# Altium schematic symbol library Bauteile.SchLib: 36 symbols
Pins are listed as number, name and electrical type; pins without a type are passive.

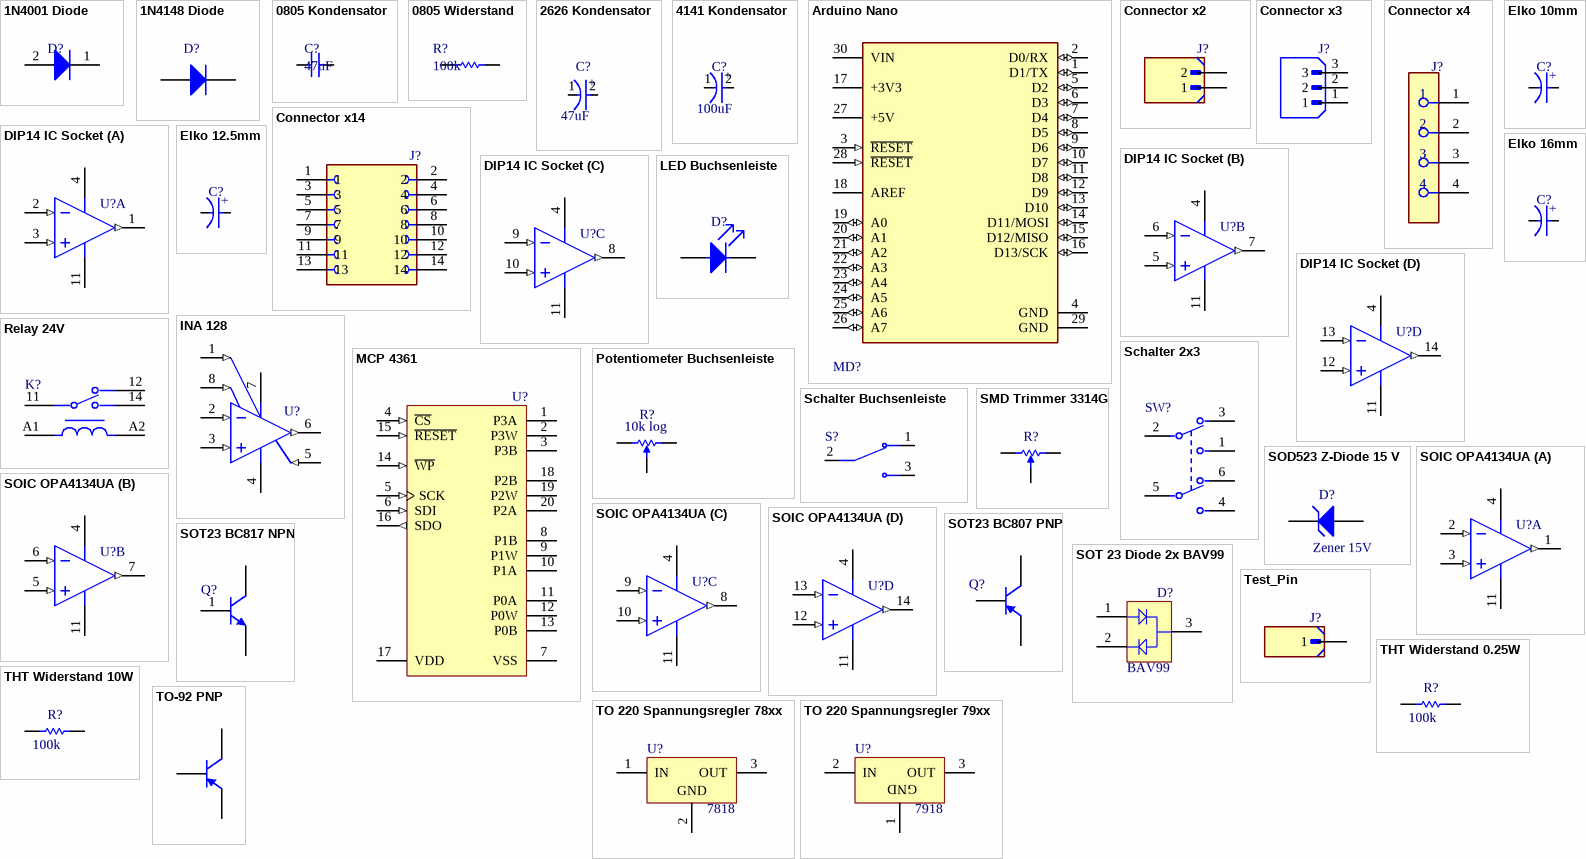
[diagram p0: symbols 1N4001 Diode to TO-92 PNP]

## 1N4001 Diode
designator D?
Standard Recovery Rectifier, 2-Pin Axial_Lead, Pb-Free, Bulk Bag; PartNumber: 1N4001; Manufacturer: On Semiconductor; VRRM Max (V): 50; IFSM Max (A): 30; IO(rec) Max (A): 1; ComponentLink3URL: http://www.onsemi.cn/pub_link/Collateral/59-10.PDF; ComponentLink3Description: Package Specification; PackageVersion: Rev. U, 02/2005; Packing: Bulk Bag; ComponentLink2Description: Datasheet; RoHS: TRUE; DatasheetVersion: Rev. 13; PackageReference: AXIAL_LEAD-2-59-10; ComponentLink1URL: http://www.onsemi.com/; Mounting Technology: Through Hole; PackageDescription: 2-Pin, Axial Lead, Diameter 2.35 mm; ComponentLink2URL: http://www.onsemi.com/pub_link/Collateral/1N4001-D.PDF; Type: Standard Recovery; ComponentLink1Description: Manufacturer URL
footprint 1N4001 Diode (AXIAL, 2-Leads, Diameter 2.35mm)
pins: 1 K, 2 A

## 1N4148 Diode
designator D?, comment 1N4148WS-7-F  (value not drawn)
Fast Switching Diode, 75 V, 0.3 A, -65 to 150 degC, 2-Pin SOD323, RoHS, Tape and Reel; DatasheetVersion: Rev. 25-2, 03/2016; PackageDescription: 2-Pin Small Outline Diode, Body 1.7 x 1.3 mm; ComponentLink2Description: Datasheet; ComponentLink1URL: http://www.diodes.com/; PackageReference: SOD323-2; ComponentLink2URL: http://www.diodes.com/datasheets/ds30097.pdf; ComponentLink1Description: Manufacturer URL
footprint 1N4148 Diode
pins: 1 A, 2 K

## 0805 Kondensator
designator C?, comment 47uF
0805 Kondensator; Value: 47uF
footprint 0805
pins: 1, 2

## 0805 Widerstand
designator R?, comment 100k
0805 Widerstand; Value: 100k
footprint 0805
pins: 1, 2

## 2626 Kondensator
designator C?, comment 47uF
2626 Kondensator d=6.6mm; Ripple Current: 2.8A; Voltage: 25V; Polarity: Polar; Leakage Current: 235uA; Tolerance: 20%; Dissipation Factor: 12%; ESR (Equivalent Series Resistance): 30mR; Life (Hours): 5000Hour; Diameter: 6.3mm; Package Quantity: 1000; Packaging: Tape and Reel; Height - Seated (Max): 0.236inch; Case/Package: Radial; Termination: SMD/SMT; Series: OS-CON™, SVPF; Number of Pins: 6; Value: 47uF; Min Operating Temperature: -55°C; Mount: Surface Mount; RoHS Compliant: Yes; Voltage Rating (DC): 25V; Length: 5.9mm; REACH SVHC: No SVHC; Voltage Rating: 25V; Ripple Current (AC): 2.8A; Height: 5.9mm; Max Operating Temperature: 105°C
footprint 2626 Kondensator (2626 Kondensator d=6.6mm)
pins: 1 C, 2 A
text: +

## 4141 Kondensator
designator C?, comment 100uF
4141Kondensator; Value: 100uF
footprint 4141 Kondensator
pins: 1 C, 2 A
text: +

## Arduino Nano
designator MD?, comment A000005  (value not drawn)
ARDUINO NANO ATMEGA328 EVAL BRD; Number of Bits: 8; Evaluation Kit: Yes; Operating Supply Voltage: 12V; Interface: I2C; Data Bus Width: 8b; Core Architecture: AVR; Packaging: Bulk; Length: 7inch; Package Quantity: 50; Width: 5inch; REACH SVHC: No SVHC; Weight: 0.358383oz; Series: AVR® ATmega; Height: 0.25inch
footprint Arduino Nano
pins: 1 D1/TX (io), 2 D0/RX (io), 3 ~{RESET} (in), 4 GND (power), 5 D2 (io), 6 D3 (io), 7 D4 (io), 8 D5 (io), 9 D6 (io), 10 D7 (io), 11 D8 (io), 12 D9 (io), 13 D10 (io), 14 D11/MOSI (io), 15 D12/MISO (io), 16 D13/SCK (io), 17 +3V3 (power), 18 AREF, 19 A0 (io), 20 A1 (io), 21 A2 (io), 22 A3 (io), 23 A4 (io), 24 A5 (io), 25 A6 (io), 26 A7 (io), 27 +5V (power), 28 ~{RESET} (in), 29 GND (power), 30 VIN (power)

## Connector x2
designator J?  (value not drawn)
Connector Header Through Hole 2 position 0.100 (2.54mm); MF: Wurth Elektronik; MP: 61300211121; SnapEDA_Link: https://www.snapeda.com/parts/61300211121/Wurth+Elektronik/view-part/?ref=snap; Package: None; Value: *; Check_prices: https://www.snapeda.com/parts/61300211121/Wurth+Elektronik/view-part/?ref=eda
footprint Connector x2
pins: 1, 2

## Connector x3
designator J?  (value not drawn)
Connector Header Through Hole 3 position 0.100 (2.54mm); MF: JST Sales; MP: B3B-XH-A; SnapEDA_Link: https://www.snapeda.com/parts/B3B-XH-A/JST+Sales+America+Inc./view-part/?ref=snap; Package: None; Value: *; Check_prices: https://www.snapeda.com/parts/B3B-XH-A/JST+Sales+America+Inc./view-part/?ref=eda
footprint Connector x3
pins: 1, 2, 3

## Connector x4
designator J?, comment SS-104-G-2  (value not drawn)
CONN RCPT 4POS 0.1 GOLD PCB; Contact Resistance: 10mR; Number of Positions: 4; Pitch: 2.54mm; Gender: Female; Connector Type: Receptacle; Max Current Rating: 1A; Color: Black; Contact Material: Copper; Min Operating Temperature: -55°C; Max Operating Temperature: 125°C; Radiation Hardening: No; Termination: Solder; Depth: 2.54mm; Contact Plating: Gold; Orientation: Straight; Housing Color: Black; Width: 2.54mm; RoHS Compliant: Yes; Lead Free: Lead Free; Mount: Through Hole; Series: SS; Length: 10.16mm; Packaging: Bulk; Package Quantity: 1; Housing Material: Polyester; Number of Contacts: 4; Number of Rows: 1
footprint Connector x4
pins: 1, 2, 3, 4

## Connector x14
designator J?  (value not drawn)
14 Position Header Connector Through Hole; MF: Sullins Connector; MP: SFH11-PBPC-D07-ST-BK; Value: *; Check_prices: https://www.snapeda.com/parts/SFH11-PBPC-D07-ST-BK/Sullins%20Connector%20Solutions/view-part/851415/?ref=eda; Availability: Warning; Package: None; SnapEDA_Link: https://www.snapeda.com/parts/SFH11-PBPC-D07-ST-BK/Sullins%20Connector%20Solutions/view-part/851415/?ref=snap; Purchase-URL: https://pricing.snapeda.com/search/part/SFH11-PBPC-D07-ST-BK/?ref=eda; Price: None
footprint Connector x14
pins: 1, 2, 3, 4, 5, 6, 7, 8, 9, 10, 11, 12, 13, 14

## DIP14 IC Socket
designator U?  (value not drawn)
Manufacturer: Texas Instruments; PartNumber: OPA4134UA; Vmax(V): 36; Number of Channels: 4; Iq per channel(Max)(mA): 5; SubFamily: Audio Operational Amplifier; GBW(Typ)(MHz): 8; Eco-Plan: Green (RoHS & no Sb/Br); DatasheetVersion: SBOS058; ComponentLink2URL: http://www.ti.com/general/docs/lit/getliterature.tsp?genericPartNumber=OPA4134&fileType=pdf; ComponentLink1URL: http://www.ti.com/; PackageDescription: 14-Pin Plastic Small Outline, Body 8.65 x 3.9 mm, Pitch 1.27 mm; Vmin(V): 5; ComponentLink2Description: Datasheet; PackageVersion: 4040047-5/M, 06/2011; Code_JEDEC: MS-012; PackageReference: D0014A; ComponentLink1Description: Manufacturer URL; Vn at Flatband(Typ)(nV/rtHz): 8; Mounting Technology: Surface Mount; ComponentLink3URL: http://www.ti.com/lit/ml/mpds177g/mpds177g.pdf; ComponentLink3Description: Package Specification
footprint DIP14 IC Socket (Socket, 14-Leads, Body 17.653x10.0076mm, Pitch 2.54mm)
pins on every part: 4 V+ (power), 11 V- (power)
part A pins: 1 OUT A (out), 2 IN A- (in), 3 IN A+ (in)
part B pins: 5 IN B+ (in), 6 IN B- (in), 7 OUT B (out)
part C pins: 8 OUT C (out), 9 IN C- (in), 10 IN C+ (in)
part D pins: 12 IN D+ (in), 13 IN D- (in), 14 OUT D (out)

## Elko 10mm
designator C?, comment 470uF  (value not drawn)
Aluminum Electrolytic Capacitors (Radial Lead Type) 470uF ±20% 25V; ESR (Equivalent Series Resistance): 43mR; Ripple Current: 1.29A; Life (Hours): 6000Hour; Lead Diameter: 0.6mm; Polarity: Polar; Min Operating Temperature: -40°C; Tolerance: 20%; Length: 12.5mm; Height - Seated (Max): 0.551inch; Max Operating Temperature: 105°C; Case/Package: Radial; Features: General Purpose; Series: FR; Voltage Rating: 25V; Value: 470uF; Mount: Through Hole; RoHS Compliant: Yes; Packaging: Tape and Reel; Diameter: 10mm; Voltage Rating (DC): 25V; Impedance: 43mR; REACH SVHC: No SVHC; Contact Plating: Tin; Termination: Radial; Radiation Hardening: No; Package Quantity: 500; Lead Pitch: 5mm; Height: 12.5mm
footprint Elko 10mm
pins: 1 C, 2 A
text: +

## Elko 12.5mm
designator C?, comment 1.8mF  (value not drawn)
Aluminum Electrolytic Capacitors (Radial Lead Type); Dielectric Material: Aluminium; Ripple Current: 2.33A; Voltage: 35V; Impedance: 26mR; Dissipation Factor: 0.12%; Tolerance: 20%; Lead/Base Style: Straight; Lead Diameter: 0.8mm; Life (Hours): 5000Hour; Max Operating Temperature: 105°C; Height: 20mm; Construction: RADIAL; Case/Package: Radial; Termination: Radial; Lead Pitch: 7.5mm; RoHS Compliant: Yes; Number of Pins: 2; Packaging: Bulk; Mount: Through Hole; Length: 20mm; Diameter: 16mm; Voltage Rating: 35V; REACH SVHC: No SVHC; Value: 1.8mF; Series: FK; Package Quantity: 100; Voltage Rating (DC): 35V; Radiation Hardening: No; Min Operating Temperature: -55°C
footprint ELKO 12.5mm
pins: 1 C, 2 A
text: +

## Elko 16mm
designator C?, comment 1.8mF  (value not drawn)
Aluminum Electrolytic Capacitors (Radial Lead Type); Dielectric Material: Aluminium; Ripple Current: 2.33A; Voltage: 35V; Impedance: 26mR; Dissipation Factor: 0.12%; Tolerance: 20%; Lead/Base Style: Straight; Lead Diameter: 0.8mm; Life (Hours): 5000Hour; Max Operating Temperature: 105°C; Height: 20mm; Construction: RADIAL; Case/Package: Radial; Termination: Radial; Lead Pitch: 7.5mm; RoHS Compliant: Yes; Number of Pins: 2; Packaging: Bulk; Mount: Through Hole; Length: 20mm; Diameter: 16mm; Voltage Rating: 35V; REACH SVHC: No SVHC; Value: 1.8mF; Series: FK; Package Quantity: 100; Voltage Rating (DC): 35V; Radiation Hardening: No; Min Operating Temperature: -55°C
footprint Elko 16mm
pins: 1 C, 2 A
text: +

## INA 128
designator U?, comment INA128U  (value not drawn)
Precision, Low Power Instrumentation Amplifier, -40 to 85 degC, 8-pin SOIC (D8), Green (RoHS & no Sb/Br); Manufacturer: Texas Instruments; Gain(V/V): 1 to 10000; Noise at 1kHz(Typ)(nV/rt(Hz)): 8; Number of Channels: 1; Vs(Max)(V): 36; Vs(Min)(V): 4.5; Input Offset (+/-)(Max)(uV): 50; Input Bias Current (+/-)(Max)(nA): 5; Non-Linearity (+/-)(Max)(%): 0.002; CMRR(Min)(dB): 120; Input Offset Drift (+/-)(Max)(uV/Degrees Celsius): 0.5; SubFamily: Dual Supply; Quiescent Current (+/-)(Typ)(mA): 0.7; ComponentLink1URL: http://www.ti.com/; PackageVersion: 4040047-3/M, 06/2011; PackageDescription: 8-Pin Plastic Small Outline, Body 4.9 x 3.9 mm, Pitch 1.27 mm; Mounting Technology: Surface Mount; ComponentLink3URL: http://www.ti.com/litv/pdf/msoi002j; ComponentLink3Description: Package Specification; PackageReference: D0008A; PartNumber: INA128U; Code_JEDEC: MS-012; ComponentLink2Description: Datasheet; Eco-Plan: Green (RoHS & no Sb/Br); DatasheetVersion: SBOS051B; ComponentLink2URL: http://www.ti.com/general/docs/lit/getliterature.tsp?genericPartNumber=INA128&fileType=pdf; ComponentLink1Description: Manufacturer URL
footprint INA 128 (SOIC, 8-Leads, Body 5x4mm, Pitch 1.27mm, IPC Low Density)
pins: 1 RG (in), 2 VIN- (in), 3 VIN+ (in), 4 V- (power), 5 REF (in), 6 VO (out), 7 V+ (power), 8 RG (in)

## LED Buchsenleiste
designator D?, comment WP710A10LGD  (value not drawn)
WP710A10LGD LED Thru-Hole PCB Green T-1 3mm Green Lens 2 mA 568 nm 2 mcd Round | Kingbright WP710A10LGD; NexarPartId: 20090258; Number of LEDs: 1; Max Junction Temperature (Tj): 110°C; Viewing Angle: 40°; Reverse Voltage: 5V; Forward Voltage: 1.9V; Dominant Wavelength: 568nm; Luminous Intensity: 2mcd; Power Rating: 62.5mW; Forward Current: 2mA; Lens Style: Diffused, Dome, Round, Tinted; Height: 4.6mm; Mount: Through Hole; Illumination Color: Green; Number of Pins: 3; RoHS: Compliant; Max Operating Temperature: 85°C; Min Operating Temperature: -40°C; Lens Color: Green; Wavelength: 568nm; Color: Green; Schedule B: 8541402000, 8541402000|8541402000|8541402000|8541402000|8541402000; Case/Package: Radial; Power Dissipation: 62.5mW; Lead Free: Lead Free; Test Current: 2mA
footprint Connector x2
pins: 1 A, 2 K

## MCP 4361
designator U?, comment MCP4361-103E/ST  (value not drawn)
7/8-Bit Quad SPI Digital POT with Non-Volatile Memory, 20-Pin TSSOP, Extended Temperature; ComponentLink2URL: http://ww1.microchip.com/downloads/en/DeviceDoc/22233a.pdf; PackageVersion: revBB, Aug-2009; Code_JEDEC: MO-153-AC; ComponentLink1Description: Manufacturer URL; DatasheetVersion: revA, Dec-2009; ComponentLink1URL: http://www.microchip.com/; PackageDescription: 20-Lead Plastic Thin Shrink Small Outline (ST) - 4.4mm Body [TSSOP]; ComponentLink3Description: Package Specification; PackageReference: TSSOP-ST20; ComponentLink3URL: http://www.microchip.com/stellent/groups/techpub_sg/documents/packagingspec/en012702.pdf; ComponentLink2Description: Datasheet
footprint MCP 4361 (TSOP, 20-Leads, Body 6.5x4.4mm, Pitch 0.65mm, IPC Medium Density)
pins: 1 P3A, 2 P3W, 3 P3B, 4 ~{CS} (in), 5 SCK (in), 6 SDI (in), 7 VSS (power), 8 P1B, 9 P1W, 10 P1A, 11 P0A, 12 P0W, 13 P0B, 14 ~{WP} (in), 15 ~{RESET} (in), 16 SDO (out), 17 VDD (power), 18 P2B, 19 P2W, 20 P2A

## Potentiometer Buchsenleiste
designator R?, comment 10k log
Potentiometer; Value: 10k log
footprint Connector x3
pins: 1, 2, 3

## Relay 24V
designator K?, comment RTB14024F  (value not drawn)
RELAY GEN PURPOSE SPDT 12A 24V; Operate Time: 8ms; Approvals: CSA; Coil Type: Non-Latching; Release Time: 6ms; Voltage Rating (AC): 400V; Contact Voltage Rating (AC): 250V; Power Rating: 400mW; Application(s): GENERAL PURPOSE; Coil Current: 16.7mA; Dropout Voltage: 2.4V; Coil Resistance: 1.44kR; Termination: Plug; Current Rating: 12A; Coil Voltage (DC): 24V; Throw Configuration: SPDT; Width: 12.7mm; Radiation Hardening: No; Lead Free: Lead Free; Length: 29mm; Number of Pins: 5; RoHS Compliant: Yes; Package Quantity: 20; ELV: Compliant; Series: RT1; Contact Current Rating: 12A; Mount: Through Hole; Weight: 0.494oz; Power Consumption: 400mW; Voltage Rating (DC): 24V; Coil Power: 400mW; Min Operating Temperature: -40°C; Max Operating Temperature: 85°C; Relay Type: General Purpose; Contact Material: Silver; Max Voltage Rating (AC): 400V; Packaging: Carton; Depth: 12.7mm; Height: 15.7mm
footprint Relay 24V
pins: 11, 12, 14, A1, A2

## Schalter 2x3
designator SW?, comment G23AP  (value not drawn)
SWITCH TOGGLE DPDT 0.4VA 28V; Contact Current Rating: 100mA; Illumination Type: Non-Illuminated; Actuator Type: Standard Round; Electrical Life: 100000Cycles; Actuator Length: 3.8mm; Insulation Resistance: 500MR; Power Rating: 400mW; Actuator Material: Nylon; Switch Function: On-Off-On; Contact Plating: Gold; Voltage Rating (DC): 28V; RoHS Compliant: Yes; Min Operating Temperature: -25°C; Length: 7mm; Orientation: Vertical; Mount: Through Hole; Max Operating Temperature: 85°C; Lead Free: Lead Free; Package Quantity: 1; Series: G; Termination: PC Pin; Depth: 4.5mm; Current Rating: 100mA; Throw Configuration: DPDT; Contact Material: Bronze; Housing Material: Polyamide; Max Current Rating: 100mA; Max Voltage Rating (DC): 28V; Max Voltage Rating (AC): 28V; Voltage Rating (AC): 28V; Packaging: Tray
footprint Schalter 2x3
pins: 1, 2, 3, 4, 5, 6

## Schalter Buchsenleiste
designator S?  (value not drawn)
Toggle Switch SPDT Through Hole; MP: 100SP1T1B4M2QE; Package: None; Price: None; Value: *; Availability: Unavailable
footprint Connector x3
pins: 1, 2, 3

## SMD Trimmer 3314G
designator R?, comment 3314G-1-502E  (value not drawn)
4 mm Square Trimpot(R) Trimming Potentiometer, 5 KOhm, +/- 20%, 0.25 W, -55 to 125 degC, 3-Pin SMD, RoHS, Tape and Reel; Manufacturer: Bourns; Power: 250; Angle of rotation: 240°; Dielectric strength: 500; Resistance: 5; Curve: linear; Package Description: 3-Pin Surface Mount Device, Body 4.5 x 4.5 mm, Pitch 1.15 mm; Package Reference: 3314G-1; Mounting Technology: SurfaceMount; Datasheet URL: http://www.bourns.com/docs/Product-Datasheets/3314.pdf; Datasheet Version: 05/2016; Tolerance: ±20%; Manufacturer URL: http://www.bourns.com/; Temperature range: -55...+125°C; Package: GullWing
footprint SMD Trimmer 3314G (SMD, 3-Leads, Body 4.5x4.5mm, Pitch 1.15mm)
pins: 1, 2, 3

## SOD523 Z-Diode 15 V
designator D?, comment Zener 15V
SOD523 Z-Diode 15 V; Typ: Zener 15V
footprint Z1SMA15 Z-Diode 15V (Molded, 2-Leads, Body 4.32x2.6mm)
pins: 1 K, 2 A

## SOIC OPA4134UA
designator U?, comment OPA4134UA  (value not drawn)
SoundPlus(TM) High Performance Audio Operational Amplifier, 5 to 36 V, -55 to 125 degC, 14-pin SOIC (D14), Green (RoHS & no Sb/Br); Manufacturer: Texas Instruments; Vmax(V): 36; Number of Channels: 4; Iq per channel(Max)(mA): 5; GBW(Typ)(MHz): 8; DatasheetVersion: SBOS058; ComponentLink2URL: http://www.ti.com/general/docs/lit/getliterature.tsp?genericPartNumber=OPA4134&fileType=pdf; ComponentLink1URL: http://www.ti.com/; PackageDescription: 14-Pin Plastic Small Outline, Body 8.65 x 3.9 mm, Pitch 1.27 mm; SubFamily: Audio Operational Amplifier; Vmin(V): 5; ComponentLink2Description: Datasheet; PackageVersion: 4040047-5/M, 06/2011; Code_JEDEC: MS-012; PackageReference: D0014A; ComponentLink1Description: Manufacturer URL; Vn at Flatband(Typ)(nV/rtHz): 8; Eco-Plan: Green (RoHS & no Sb/Br); Mounting Technology: Surface Mount; ComponentLink3URL: http://www.ti.com/lit/ml/mpds177g/mpds177g.pdf; PartNumber: OPA4134UA; ComponentLink3Description: Package Specification
footprint DIP14 IC Socket (Socket, 14-Leads, Body 17.653x10.0076mm, Pitch 2.54mm)
pins on every part: 4 V+ (power), 11 V- (power)
part A pins: 1 OUT A (out), 2 IN A- (in), 3 IN A+ (in)
part B pins: 5 IN B+ (in), 6 IN B- (in), 7 OUT B (out)
part C pins: 8 OUT C (out), 9 IN C- (in), 10 IN C+ (in)
part D pins: 12 IN D+ (in), 13 IN D- (in), 14 OUT D (out)

## SOT23 BC807 PNP
designator Q?
General Purpose Transistor, PNP Silicon, 3-Pin SOT-23, Pb-Free, Tape and Reel; Manufacturer: On Semiconductor; PartNumber: BC807-40LT1G; fT Min (MHz): 100; IC Continuous (A): -0.5; Mounting Technology: Surface Mount; ComponentLink3URL: http://www.onsemi.cn/pub_link/Collateral/318-08.PDF; DatasheetVersion: Rev. 10; RoHS: TRUE; ComponentLink1URL: http://www.onsemi.com/; ComponentLink2URL: http://www.onsemi.com/pub_link/Collateral/BC807-16LT1-D.PDF; ComponentLink1Description: Manufacturer URL; ComponentLink3Description: Package Specification; PackageVersion: Rev. AP, 11/2009; PackageReference: SOT-23-3-318-08; PackageDescription: 3-Pin Small Outline Transistor, Body 2.92 x 1.3 mm, Pitch 0.95 mm; Packing: Tape and Reel; Polarity: PNP; ComponentLink2Description: Datasheet
footprint SOT23 Transistor (SOT23, 3-Leads, Body 2.92x1.3mm, Pitch 0.95mm)
pins: 1 B, 2 E, 3 C

## SOT23 BC817 NPN
designator Q?
TRANS NPN 45V 0.5A SOT23; Manufacturer Part Number: BC817-40,215; Manufacturer: Nexperia; Collector Emitter Saturation Voltage: 700mV; Power Dissipation: 250mW; Collector Base Voltage: 50V; Unity Gain Freq: 100MHz; Hfe Max: 600; Rthja Max: 500K/W; Emitter Base Voltage: 5V; Max Collector Current: 500mA; Hfe Testvce: 1V; Automotive Grade: Grade 0; Hfe Min: 250; Max Junction Temp: +150°C; Number Of Npn: 1; Hfe Testic: 100mA; Octopart: https://octopart.com/bc817-40%2C215-nexperia-78739081; Lead Free: Yes; Ipc Land Pattern Name: SOT95P230X100-3; RoHS: TRUE; Collector Emitter Breakdown Voltage: 45V; Digikey Description: TRANS NPN 45V 0.5A SOT23; ComponentLink2URL: https://assets.nexperia.com/documents/data-sheet/BC817_SER.pdf; Temperature Range High: +150°C; Mouser Description: BC817 Series 45 V 500 mA 250 mW SMT NPN General-Purpose Transistor - SOT-23-; Device Class L3: BJTs; Temperature: to +150°C; Height: 1.1mm; Automotive: Yes; Ambient Temperature Range Low: -65°C; Package: SOT23; Collector Emitter Voltage: 45V; Category: Trans; ComponentLink2Description: Datasheet; Device Class L2: Transistors; Ambient Temperature Range High: +150°C; Number Of Elements: 1; Device Class L1: Discrete Semiconductors; Footprint Url: https://assets.nexperia.com/documents/outline-drawing/SOT23.pdf
footprint SOT23 Transistor (SOT23, 3-Leads, Body 2.92x1.3mm, Pitch 0.95mm)
pins: 1 B, 2 E, 3 C

## SOT 23 Diode 2x BAV99
designator D?, comment BAV99
Silicon Switching Diode, SOT23, Reel, Green; Manufacturer: Infineon; Green: TRUE; Mounting Technology: Surface Mount; ComponentLink3URL: http://www.infineon.com/dgdl/smbta14_mmbta14.pdf?folderId=db3a30431441fb5d011445c30f210183&fileId=db3a30431441fb5d011445ef0201018c; PartNumber: BAV99; ComponentLink2Description: Datasheet; ComponentLink2URL: http://www.infineon.com/dgdl/bav99series.pdf?folderId=db3a30431400ef6801141b5844e103ea&fileId=db3a30431400ef6801141c1b237d042f; PackageVersion: Apr-08; PackageDescription: 3-Pin Small Outline Transistor Package, 1.3 x 2.9 mm Body, 0.95 mm Pitch; RevisionNote: Re-Activated Devices; ComponentLink1URL: http://www.infineon.com/; PackageReference: SOT23; ComponentLink1Description: Manufacturer URL; ComponentLink3Description: Package Specification; Packing: Reel
footprint SOT23 Diode 2x BAV99 (SOT23, 3-Leads, Body 2.9x1.3 mm, Pitch 0.95 mm, IPC High Density)
pins: 1 A1, 2 K2, 3 C

## Test_Pin
designator J?  (value not drawn)
Connector Header Through Hole 2 position 0.100 (2.54mm); MF: Wurth Elektronik; MP: 61300211121; SnapEDA_Link: https://www.snapeda.com/parts/61300211121/Wurth+Elektronik/view-part/?ref=snap; Package: None; Value: *; Check_prices: https://www.snapeda.com/parts/61300211121/Wurth+Elektronik/view-part/?ref=eda
footprint Test_Pin
pins: 1

## THT Widerstand 0.25W
designator R?, comment 100k
0805 Widerstand; Value: 100k
footprint THT Widerstand 0.25W (Axial Resistor, 2-Leads, Dia 2.4mm, Body Length 6.3mm)
pins: 1, 2

## THT Widerstand 10W
designator R?, comment 100k
0805 Widerstand; Value: 100k
footprint THT Widerstand 10W
pins: 1, 2

## TO 220 Spannungsregler 78xx
designator U?, comment 7818
Voltage Regulator, 3-Pin TO-220; Typ: 7818
footprint TO220 Spannungsregler 78xx (TO, Thru-Hole, Vertical, Heatsink Mounted; 3 In-Line Leads; Pitch 2.54 mm)
pins: 1 IN, 2 GND (power), 3 OUT (power)

## TO 220 Spannungsregler 79xx
designator U?, comment 7918
Voltage Regulator, 3-Pin TO-220; Typ: 7918
footprint TO220 Spannungsregler 79xx (TO, Thru-Hole, Vertical, Heatsink Mounted; 3 In-Line Leads; Pitch 2.54 mm)
pins: 1 GND (power), 2 IN, 3 OUT (power)

## TO-92 PNP
designator Q?, comment PNP  (value not drawn)
TO-92 PNP Bipolar Transistor; Typ: PNP
footprint TO 92 PNP Transistor
pins: 1 E, 2 B, 3 C

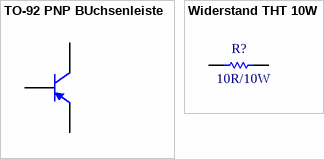
[diagram p1: symbols TO-92 PNP BUchsenleiste to Widerstand THT 10W]

## TO-92 PNP BUchsenleiste
designator Q?, comment PNP  (value not drawn)
TO-92 PNP Bipolar Transistor; Typ: PNP
footprint Buchsenleiste 3 Fach PNP TO92 (Buchsenleiste 3 Fach)
pins: 1 E, 2 B, 3 C

## Widerstand THT 10W
designator R?, comment 10R/10W
0805 Widerstand; Value: 10R/10W
footprint Widerstand THT 10W
pins: 1, 2